# Altium footprint library SOT-26.PcbLib: 1 footprints
Each footprint in its own frame and in the unit in brackets; x right, y up, seen from the top. Pads: shape width x height; smd on the part's side, far side on the other; paste and mask are expansions set on the pad; w line width, h text height; cw(c..) or ccw(c..) is an arc to the next point about the centre after c.
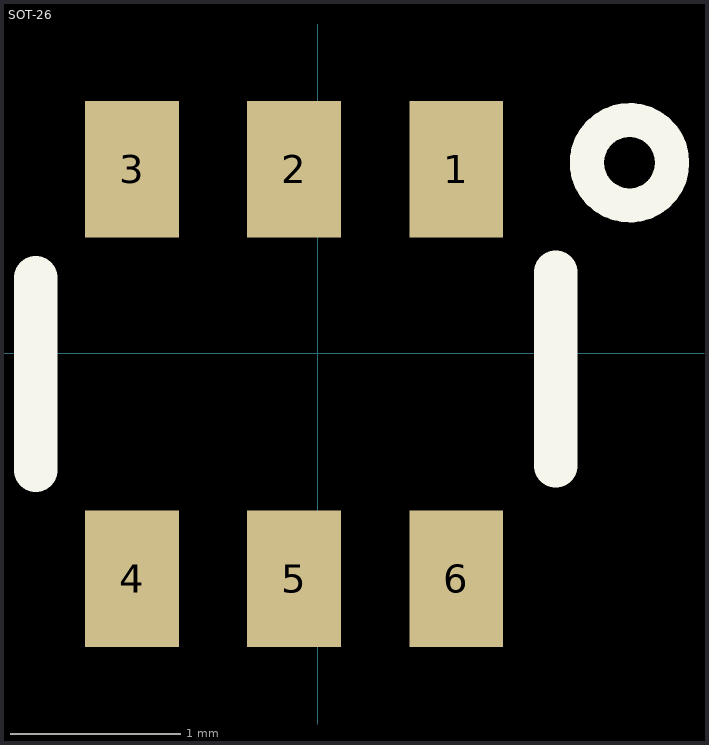
[diagram p0: the footprint, top view; thin cyan lines are the x and y axes]

## SOT-26 [mm]
height 1.3
pads (6):
  rect 0.55x0.8 smd: 1(0.813,1.079) 2(-0.137,1.079) 3(-1.087,1.079) 4(-1.087,-1.321) 5(-0.137,-1.321) 6(0.813,-1.321)
Top Overlay:
  circle w0.2: c1.829,1.118 r0.25
  lines w0.254: -1.651,-0.686 -1.651,0.444 ; 1.397,-0.66 1.397,0.475
3D body "SOT-26.step": height 1.4, standoff 0, extent -1.687,-1.62 1.413,1.38